# Altium footprint library LM3940ISX-3P3NOPB.PcbLib: 3 footprints
Each footprint in its own frame and in the unit in brackets; x right, y up, seen from the top. Pads: shape width x height; smd on the part's side, far side on the other; paste and mask are expansions set on the pad; w line width, h text height; cw(c..) or ccw(c..) is an arc to the next point about the centre after c.
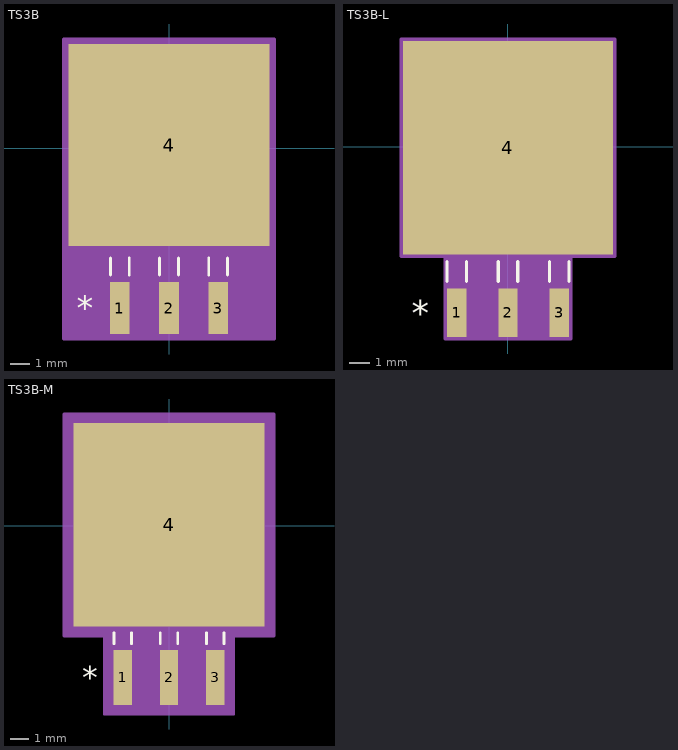
[diagram p0: the footprints below, top view; thin cyan lines are the x and y axes]

## TS3B [mil]
pads (4):
  rect 40x106 smd paste-53 mask-53: 1(-100,-326) 2(0,-326) 3(100,-326)
  rect 410x412 smd paste-206 mask-206: 4(0,6)
Top Overlay:
  lines w6: -119,-259 -119,-224 ; -81,-259 -81,-224 ; -19,-259 -19,-224 ; 19,-259 19,-224 ; 81,-259 81,-224 ; 119,-259 119,-224
  text "*" at -187.5,-351 h50
Mechanical 13:
  lines w1: -205,-200 -205,200 205,200 205,-200 -205,-200 ; -119,-365 -81,-365 -81,-200 -119,-200 -119,-365 ; -19,-365 19,-365 19,-200 -19,-200 -19,-365 ; 81,-365 119,-365 119,-200 81,-200 81,-365
  text "*" at -187.5,-351 h50
Mechanical 15:
  region: 215,-389 -215,-389 -215,222 215,222
  lines w6: -215,-389 215,-389 215,222 -215,222 -215,-389
3D body "TS3B.step": height 189.09, standoff -2.01, extent -205,-277.52 205,200.12

## TS3B-L [mil]
pads (4):
  rect 38x94 smd paste+0 mask+0: 1(-100,-324) 2(0,-324) 3(100,-324)
  rect 410x416 smd paste+0 mask+0: 4(0,-2)
Top Overlay:
  lines w6: -119,-263 -119,-224 ; -81,-263 -81,-224 ; -19,-263 -19,-224 ; 19,-263 19,-224 ; 81,-263 81,-224 ; 119,-263 119,-224
  text "REFDES" at -87.5,-25 h50
  text "*" at -187.5,-349 h50
  text "RefDes" at -75,-25 h50
Mechanical 13:
  lines w1: -205,-200 205,-200 205,200 -205,200 -205,-200 ; -119,-365 -119,-200 -81,-200 -81,-365 -119,-365 ; -19,-365 -19,-200 19,-200 19,-365 -19,-365 ; 81,-365 81,-200 119,-200 119,-365 81,-365
  text "*" at -112.5,-215 h50
  text "RefDes2" at -87.5,-25 h50
Mechanical 15:
  region: -123,-214 -209,-214 -209,210 209,210 209,-214 123,-214 123,-375 -123,-375
  lines w6: -209,-214 -209,210 209,210 209,-214 123,-214 123,-375 -123,-375 -123,-214 -209,-214
3D body "TS3B.step": height 189.09, standoff -2.01, extent -205,-277.52 205,200.12

## TS3B-M [mil]
pads (4):
  rect 40x118 smd paste+0 mask+0: 1(-100,-328) 2(0,-328) 3(100,-328)
  rect 414x440 smd paste+0 mask+0: 4(0,2)
Top Overlay:
  lines w6: -119,-255 -119,-231.1 ; -81,-255 -81,-231.1 ; -19,-255 -19,-231.1 ; 19,-255 19,-231.1 ; 81,-255 81,-231.1 ; 119,-255 119,-231.1
  text "REFDES" at -87.5,-25 h50
  text "*" at -187.5,-353 h50
  text "RefDes" at -75,-25 h50
Mechanical 13:
  lines w1: -205,-200 205,-200 205,200 -205,200 -205,-200 ; -119,-365 -119,-200 -81,-200 -81,-365 -119,-365 ; -19,-365 -19,-200 19,-200 19,-365 -19,-365 ; 81,-365 81,-200 119,-200 119,-365 81,-365
  text "*" at -112.5,-215 h50
  text "RefDes2" at -87.5,-25 h50
Mechanical 15:
  region: -140,-238 -227,-238 -227,242 227,242 227,-238 140,-238 140,-407 -140,-407
  lines w6: -227,-238 -227,242 227,242 227,-238 140,-238 140,-407 -140,-407 -140,-238 -227,-238
3D body "TS3B.step": height 189.09, standoff -2.01, extent -205,-277.52 205,200.12